# Altium schematic symbol library SCH - DIODES - TVS - MCC SOD323 BIDIR TVS.SCHLIB: 1 symbol
Pins are listed as number, name and electrical type; pins without a type are passive.

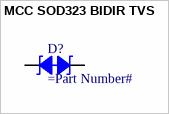
[diagram p0: symbol MCC SOD323 BIDIR TVS]

## MCC SOD323 BIDIR TVS
designator D?
TVS Diode
pins: 1, 2